# Altium footprint library Connector_Samtec_FSI.PcbLib: 90 footprints (part 2 of 6)
Each footprint in its own frame and in the unit in brackets; x right, y up, seen from the top. Pads: shape width x height; smd on the part's side, far side on the other; paste and mask are expansions set on the pad; w line width, h text height; cw(c..) or ccw(c..) is an arc to the next point about the centre after c.
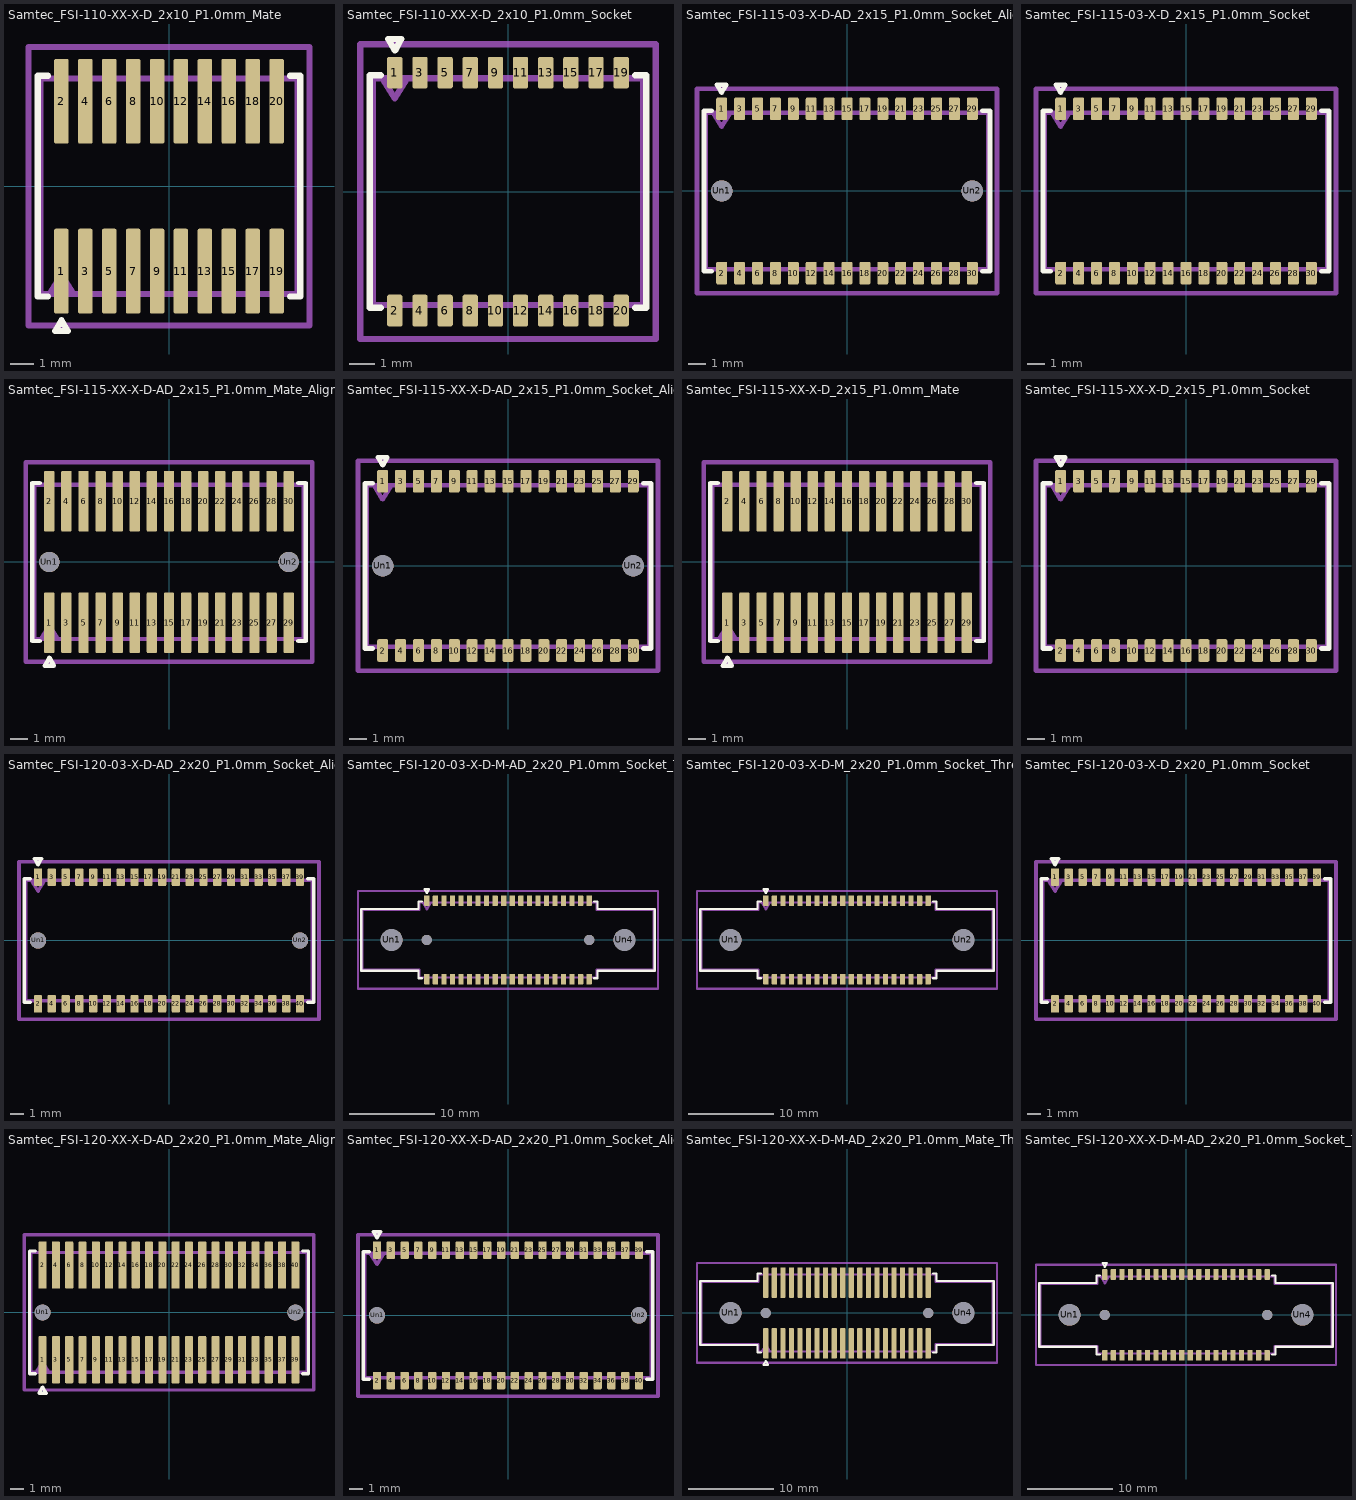
[diagram p1: the footprints below, top view; thin cyan lines are the x and y axes]

## Samtec_FSI-110-XX-X-D_2x10_P1.0mm_Mate [mm]
pads (20):
  rrect25% 0.61x3.55 smd: 1(-4.5,-3.555) 2(-4.5,3.555) 3(-3.5,-3.555) 4(-3.5,3.555) 5(-2.5,-3.555) 6(-2.5,3.555) 7(-1.5,-3.555) 8(-1.5,3.555) 9(-0.5,-3.555) 10(-0.5,3.555) 11(0.5,-3.555) 12(0.5,3.555) 13(1.5,-3.555) 14(1.5,3.555) 15(2.5,-3.555) 16(2.5,3.555) 17(3.5,-3.555) 18(3.5,3.555) 19(4.5,-3.555) 20(4.5,3.555)
F.SilkS:
  lines w0.254: -5.065,-4.618 -5.49,-4.618 -5.49,4.618 -5.065,4.618 ; 5.065,-4.618 5.49,-4.618 5.49,4.618 5.065,4.618 ; -4.764,-6.066 -4.236,-6.066 -4.5,-5.609 -4.764,-6.066
Top Assembly:
  lines w0.254: -5,-4.508 -4.5,-3.708 -4,-4.508 ; -5.38,-4.508 5.38,-4.508 5.38,4.508 -5.38,4.508 -5.38,-4.508
  text "'.Designator'" at -4.047,-0.84 h1
Top Courtyard:
  lines w0.254: -5.88,-5.83 5.88,-5.83 5.88,5.83 -5.88,5.83 -5.88,-5.83
Top Designator:
  text ".Designator" at -7.618,-0.626 h1.52

## Samtec_FSI-110-XX-X-D_2x10_P1.0mm_Socket [mm]
pads (20):
  rrect25% 0.61x1.26 smd: 1(-4.5,4.73) 2(-4.5,-4.73) 3(-3.5,4.73) 4(-3.5,-4.73) 5(-2.5,4.73) 6(-2.5,-4.73) 7(-1.5,4.73) 8(-1.5,-4.73) 9(-0.5,4.73) 10(-0.5,-4.73) 11(0.5,4.73) 12(0.5,-4.73) 13(1.5,4.73) 14(1.5,-4.73) 15(2.5,4.73) 16(2.5,-4.73) 17(3.5,4.73) 18(3.5,-4.73) 19(4.5,4.73) 20(4.5,-4.73)
F.SilkS:
  lines w0.254: -5.065,-4.618 -5.49,-4.618 -5.49,4.618 -5.065,4.618 ; -4.507,5.62 -4.764,6.066 -4.236,6.066 -4.493,5.62 ; 5.065,-4.618 5.49,-4.618 5.49,4.618 5.065,4.618
Top Assembly:
  lines w0.254: -5,4.508 -4.5,3.708 -4,4.508 ; -5.38,-4.508 5.38,-4.508 5.38,4.508 -5.38,4.508 -5.38,-4.508
  text "'.Designator'" at -4.047,-0.84 h1
Top Courtyard:
  lines w0.254: -5.88,-5.86 5.88,-5.86 5.88,5.86 -5.88,5.86 -5.88,-5.86
Top Designator:
  text ".Designator" at -7.618,-0.405 h1.52

## Samtec_FSI-115-03-X-D-AD_2x15_P1.0mm_Socket_AlignmentPin [mm]
pads (32):
  rrect25% 0.61x1.26 smd: 1(-7,4.59) 2(-7,-4.59) 3(-6,4.59) 4(-6,-4.59) 5(-5,4.59) 6(-5,-4.59) 7(-4,4.59) 8(-4,-4.59) 9(-3,4.59) 10(-3,-4.59) 11(-2,4.59) 12(-2,-4.59) 13(-1,4.59) 14(-1,-4.59) 15(0,4.59) 16(0,-4.59) 17(1,4.59) 18(1,-4.59) 19(2,4.59) 20(2,-4.59) 21(3,4.59) 22(3,-4.59) 23(4,4.59) 24(4,-4.59) 25(5,4.59) 26(5,-4.59) 27(6,4.59) 28(6,-4.59) 29(7,4.59) 30(7,-4.59)
  round 1.19 hole 1.19: Un1(-7,0) Un2(7,0)
F.SilkS:
  lines w0.254: -7.565,-4.49 -7.99,-4.49 -7.99,4.49 -7.565,4.49 ; 7.565,-4.49 7.99,-4.49 7.99,4.49 7.565,4.49 ; -7.264,5.937 -6.736,5.937 -7,5.48 -7.264,5.937
Top Assembly:
  lines w0.254: -7.5,4.38 -7,3.58 -6.5,4.38 ; -7.88,-4.38 7.88,-4.38 7.88,4.38 -7.88,4.38 -7.88,-4.38
  text "'.Designator'" at -4.047,-0.84 h1
Top Courtyard:
  lines w0.254: -8.38,-5.72 8.38,-5.72 8.38,5.72 -8.38,5.72 -8.38,-5.72
Top Designator:
  text ".Designator" at -7.618,-0.399 h1.52

## Samtec_FSI-115-03-X-D_2x15_P1.0mm_Socket [mm]
pads (30):
  rrect25% 0.61x1.26 smd: 1(-7,4.59) 2(-7,-4.59) 3(-6,4.59) 4(-6,-4.59) 5(-5,4.59) 6(-5,-4.59) 7(-4,4.59) 8(-4,-4.59) 9(-3,4.59) 10(-3,-4.59) 11(-2,4.59) 12(-2,-4.59) 13(-1,4.59) 14(-1,-4.59) 15(0,4.59) 16(0,-4.59) 17(1,4.59) 18(1,-4.59) 19(2,4.59) 20(2,-4.59) 21(3,4.59) 22(3,-4.59) 23(4,4.59) 24(4,-4.59) 25(5,4.59) 26(5,-4.59) 27(6,4.59) 28(6,-4.59) 29(7,4.59) 30(7,-4.59)
F.SilkS:
  lines w0.254: -7.565,-4.49 -7.99,-4.49 -7.99,4.49 -7.565,4.49 ; 7.565,-4.49 7.99,-4.49 7.99,4.49 7.565,4.49 ; -7.264,5.937 -6.736,5.937 -7,5.48 -7.264,5.937
Top Assembly:
  lines w0.254: -7.5,4.38 -7,3.58 -6.5,4.38 ; -7.88,-4.38 7.88,-4.38 7.88,4.38 -7.88,4.38 -7.88,-4.38
  text "'.Designator'" at -4.047,-0.84 h1
Top Courtyard:
  lines w0.254: -8.38,-5.72 8.38,-5.72 8.38,5.72 -8.38,5.72 -8.38,-5.72
Top Designator:
  text ".Designator" at -7.618,-0.399 h1.52

## Samtec_FSI-115-XX-X-D-AD_2x15_P1.0mm_Mate_AlignmentPin [mm]
pads (32):
  rrect25% 0.61x3.55 smd: 1(-7,-3.555) 2(-7,3.555) 3(-6,-3.555) 4(-6,3.555) 5(-5,-3.555) 6(-5,3.555) 7(-4,-3.555) 8(-4,3.555) 9(-3,-3.555) 10(-3,3.555) 11(-2,-3.555) 12(-2,3.555) 13(-1,-3.555) 14(-1,3.555) 15(0,-3.555) 16(0,3.555) 17(1,-3.555) 18(1,3.555) 19(2,-3.555) 20(2,3.555) 21(3,-3.555) 22(3,3.555) 23(4,-3.555) 24(4,3.555) 25(5,-3.555) 26(5,3.555) 27(6,-3.555) 28(6,3.555) 29(7,-3.555) 30(7,3.555)
  round 1.19 hole 1.19: Un1(-7,0) Un2(7,0)
F.SilkS:
  lines w0.254: -7.565,-4.618 -7.99,-4.618 -7.99,4.618 -7.565,4.618 ; 7.565,-4.618 7.99,-4.618 7.99,4.618 7.565,4.618 ; -7.264,-6.066 -6.736,-6.066 -7,-5.609 -7.264,-6.066
Top Assembly:
  lines w0.254: -7.5,-4.508 -7,-3.708 -6.5,-4.508 ; -7.88,-4.508 7.88,-4.508 7.88,4.508 -7.88,4.508 -7.88,-4.508
  text "'.Designator'" at -4.047,-0.84 h1
Top Courtyard:
  lines w0.254: -8.38,-5.83 8.38,-5.83 8.38,5.83 -8.38,5.83 -8.38,-5.83
Top Designator:
  text ".Designator" at -7.618,-0.626 h1.52

## Samtec_FSI-115-XX-X-D-AD_2x15_P1.0mm_Socket_AlignmentPin [mm]
pads (32):
  rrect25% 0.61x1.26 smd: 1(-7,4.73) 2(-7,-4.73) 3(-6,4.73) 4(-6,-4.73) 5(-5,4.73) 6(-5,-4.73) 7(-4,4.73) 8(-4,-4.73) 9(-3,4.73) 10(-3,-4.73) 11(-2,4.73) 12(-2,-4.73) 13(-1,4.73) 14(-1,-4.73) 15(0,4.73) 16(0,-4.73) 17(1,4.73) 18(1,-4.73) 19(2,4.73) 20(2,-4.73) 21(3,4.73) 22(3,-4.73) 23(4,4.73) 24(4,-4.73) 25(5,4.73) 26(5,-4.73) 27(6,4.73) 28(6,-4.73) 29(7,4.73) 30(7,-4.73)
  round 1.19 hole 1.19: Un1(-7,0) Un2(7,0)
F.SilkS:
  lines w0.254: -7.565,-4.618 -7.99,-4.618 -7.99,4.618 -7.565,4.618 ; -7.007,5.62 -7.264,6.066 -6.736,6.066 -6.993,5.62 ; 7.565,-4.618 7.99,-4.618 7.99,4.618 7.565,4.618
Top Assembly:
  lines w0.254: -7.5,4.508 -7,3.708 -6.5,4.508 ; -7.88,-4.508 7.88,-4.508 7.88,4.508 -7.88,4.508 -7.88,-4.508
  text "'.Designator'" at -4.047,-0.84 h1
Top Courtyard:
  lines w0.254: -8.38,-5.86 8.38,-5.86 8.38,5.86 -8.38,5.86 -8.38,-5.86
Top Designator:
  text ".Designator" at -7.618,-0.405 h1.52

## Samtec_FSI-115-XX-X-D_2x15_P1.0mm_Mate [mm]
pads (30):
  rrect25% 0.61x3.55 smd: 1(-7,-3.555) 2(-7,3.555) 3(-6,-3.555) 4(-6,3.555) 5(-5,-3.555) 6(-5,3.555) 7(-4,-3.555) 8(-4,3.555) 9(-3,-3.555) 10(-3,3.555) 11(-2,-3.555) 12(-2,3.555) 13(-1,-3.555) 14(-1,3.555) 15(0,-3.555) 16(0,3.555) 17(1,-3.555) 18(1,3.555) 19(2,-3.555) 20(2,3.555) 21(3,-3.555) 22(3,3.555) 23(4,-3.555) 24(4,3.555) 25(5,-3.555) 26(5,3.555) 27(6,-3.555) 28(6,3.555) 29(7,-3.555) 30(7,3.555)
F.SilkS:
  lines w0.254: -7.565,-4.618 -7.99,-4.618 -7.99,4.618 -7.565,4.618 ; 7.565,-4.618 7.99,-4.618 7.99,4.618 7.565,4.618 ; -7.264,-6.066 -6.736,-6.066 -7,-5.609 -7.264,-6.066
Top Assembly:
  lines w0.254: -7.5,-4.508 -7,-3.708 -6.5,-4.508 ; -7.88,-4.508 7.88,-4.508 7.88,4.508 -7.88,4.508 -7.88,-4.508
  text "'.Designator'" at -4.047,-0.84 h1
Top Courtyard:
  lines w0.254: -8.38,-5.83 8.38,-5.83 8.38,5.83 -8.38,5.83 -8.38,-5.83
Top Designator:
  text ".Designator" at -7.618,-0.626 h1.52

## Samtec_FSI-115-XX-X-D_2x15_P1.0mm_Socket [mm]
pads (30):
  rrect25% 0.61x1.26 smd: 1(-7,4.73) 2(-7,-4.73) 3(-6,4.73) 4(-6,-4.73) 5(-5,4.73) 6(-5,-4.73) 7(-4,4.73) 8(-4,-4.73) 9(-3,4.73) 10(-3,-4.73) 11(-2,4.73) 12(-2,-4.73) 13(-1,4.73) 14(-1,-4.73) 15(0,4.73) 16(0,-4.73) 17(1,4.73) 18(1,-4.73) 19(2,4.73) 20(2,-4.73) 21(3,4.73) 22(3,-4.73) 23(4,4.73) 24(4,-4.73) 25(5,4.73) 26(5,-4.73) 27(6,4.73) 28(6,-4.73) 29(7,4.73) 30(7,-4.73)
F.SilkS:
  lines w0.254: -7.565,-4.618 -7.99,-4.618 -7.99,4.618 -7.565,4.618 ; -7.007,5.62 -7.264,6.066 -6.736,6.066 -6.993,5.62 ; 7.565,-4.618 7.99,-4.618 7.99,4.618 7.565,4.618
Top Assembly:
  lines w0.254: -7.5,4.508 -7,3.708 -6.5,4.508 ; -7.88,-4.508 7.88,-4.508 7.88,4.508 -7.88,4.508 -7.88,-4.508
  text "'.Designator'" at -4.047,-0.84 h1
Top Courtyard:
  lines w0.254: -8.38,-5.86 8.38,-5.86 8.38,5.86 -8.38,5.86 -8.38,-5.86
Top Designator:
  text ".Designator" at -7.618,-0.405 h1.52

## Samtec_FSI-120-03-X-D-AD_2x20_P1.0mm_Socket_AlignmentPin [mm]
pads (42):
  rrect25% 0.61x1.26 smd: 1(-9.5,4.59) 2(-9.5,-4.59) 3(-8.5,4.59) 4(-8.5,-4.59) 5(-7.5,4.59) 6(-7.5,-4.59) 7(-6.5,4.59) 8(-6.5,-4.59) 9(-5.5,4.59) 10(-5.5,-4.59) 11(-4.5,4.59) 12(-4.5,-4.59) 13(-3.5,4.59) 14(-3.5,-4.59) 15(-2.5,4.59) 16(-2.5,-4.59) 17(-1.5,4.59) 18(-1.5,-4.59) 19(-0.5,4.59) 20(-0.5,-4.59) 21(0.5,4.59) 22(0.5,-4.59) 23(1.5,4.59) 24(1.5,-4.59) 25(2.5,4.59) 26(2.5,-4.59) 27(3.5,4.59) 28(3.5,-4.59) 29(4.5,4.59) 30(4.5,-4.59) 31(5.5,4.59) 32(5.5,-4.59) 33(6.5,4.59) 34(6.5,-4.59) 35(7.5,4.59) 36(7.5,-4.59) 37(8.5,4.59) 38(8.5,-4.59) 39(9.5,4.59) 40(9.5,-4.59)
  round 1.19 hole 1.19: Un1(-9.5,0) Un2(9.5,0)
F.SilkS:
  lines w0.254: -10.065,-4.49 -10.49,-4.49 -10.49,4.49 -10.065,4.49 ; 10.065,-4.49 10.49,-4.49 10.49,4.49 10.065,4.49 ; -9.764,5.937 -9.236,5.937 -9.5,5.48 -9.764,5.937
Top Assembly:
  lines w0.254: -10,4.38 -9.5,3.58 -9,4.38 ; -10.38,-4.38 10.38,-4.38 10.38,4.38 -10.38,4.38 -10.38,-4.38
  text "'.Designator'" at -4.047,-0.84 h1
Top Courtyard:
  lines w0.254: -10.88,-5.72 10.88,-5.72 10.88,5.72 -10.88,5.72 -10.88,-5.72
Top Designator:
  text ".Designator" at -7.618,-0.399 h1.52

## Samtec_FSI-120-03-X-D-M-AD_2x20_P1.0mm_Socket_Threaded_AlignmentPin [mm]
pads (44):
  rrect25% 0.61x1.26 smd: 1(-9.5,4.59) 2(-9.5,-4.59) 3(-8.5,4.59) 4(-8.5,-4.59) 5(-7.5,4.59) 6(-7.5,-4.59) 7(-6.5,4.59) 8(-6.5,-4.59) 9(-5.5,4.59) 10(-5.5,-4.59) 11(-4.5,4.59) 12(-4.5,-4.59) 13(-3.5,4.59) 14(-3.5,-4.59) 15(-2.5,4.59) 16(-2.5,-4.59) 17(-1.5,4.59) 18(-1.5,-4.59) 19(-0.5,4.59) 20(-0.5,-4.59) 21(0.5,4.59) 22(0.5,-4.59) 23(1.5,4.59) 24(1.5,-4.59) 25(2.5,4.59) 26(2.5,-4.59) 27(3.5,4.59) 28(3.5,-4.59) 29(4.5,4.59) 30(4.5,-4.59) 31(5.5,4.59) 32(5.5,-4.59) 33(6.5,4.59) 34(6.5,-4.59) 35(7.5,4.59) 36(7.5,-4.59) 37(8.5,4.59) 38(8.5,-4.59) 39(9.5,4.59) 40(9.5,-4.59)
  round 2.54 hole 2.54: Un1(-13.62,0) Un4(13.62,0)
  round 1.19 hole 1.19: Un2(-9.5,0) Un3(9.5,0)
F.SilkS:
  lines w0.254: -10.065,-4.49 -10.49,-4.49 -10.49,-3.605 -17.16,-3.605 -17.16,3.605 -10.49,3.605 -10.49,4.49 -10.065,4.49 ; 10.065,-4.49 10.49,-4.49 10.49,-3.605 17.16,-3.605 17.16,3.605 10.49,3.605 10.49,4.49 10.065,4.49 ; -9.764,5.937 -9.236,5.937 -9.5,5.48 -9.764,5.937
Top Assembly:
  lines w0.254: -10,4.38 -9.5,3.58 -9,4.38 ; -17.05,-3.495 -10.38,-3.495 -10.38,-4.38 10.38,-4.38 10.38,-3.495 17.05,-3.495 17.05,3.495 10.38,3.495 10.38,4.38 -10.38,4.38 -10.38,3.495 -17.05,3.495 -17.05,-3.495
  text "'.Designator'" at -4.047,-0.84 h1
Top Courtyard:
  lines w0.254: -17.55,-5.72 17.55,-5.72 17.55,5.72 -17.55,5.72 -17.55,-5.72
Top Designator:
  text ".Designator" at -7.618,-0.399 h1.52

## Samtec_FSI-120-03-X-D-M_2x20_P1.0mm_Socket_Threaded [mm]
pads (42):
  rrect25% 0.61x1.26 smd: 1(-9.5,4.59) 2(-9.5,-4.59) 3(-8.5,4.59) 4(-8.5,-4.59) 5(-7.5,4.59) 6(-7.5,-4.59) 7(-6.5,4.59) 8(-6.5,-4.59) 9(-5.5,4.59) 10(-5.5,-4.59) 11(-4.5,4.59) 12(-4.5,-4.59) 13(-3.5,4.59) 14(-3.5,-4.59) 15(-2.5,4.59) 16(-2.5,-4.59) 17(-1.5,4.59) 18(-1.5,-4.59) 19(-0.5,4.59) 20(-0.5,-4.59) 21(0.5,4.59) 22(0.5,-4.59) 23(1.5,4.59) 24(1.5,-4.59) 25(2.5,4.59) 26(2.5,-4.59) 27(3.5,4.59) 28(3.5,-4.59) 29(4.5,4.59) 30(4.5,-4.59) 31(5.5,4.59) 32(5.5,-4.59) 33(6.5,4.59) 34(6.5,-4.59) 35(7.5,4.59) 36(7.5,-4.59) 37(8.5,4.59) 38(8.5,-4.59) 39(9.5,4.59) 40(9.5,-4.59)
  round 2.54 hole 2.54: Un1(-13.62,0) Un2(13.62,0)
F.SilkS:
  lines w0.254: -10.065,-4.49 -10.49,-4.49 -10.49,-3.605 -17.16,-3.605 -17.16,3.605 -10.49,3.605 -10.49,4.49 -10.065,4.49 ; 10.065,-4.49 10.49,-4.49 10.49,-3.605 17.16,-3.605 17.16,3.605 10.49,3.605 10.49,4.49 10.065,4.49 ; -9.764,5.937 -9.236,5.937 -9.5,5.48 -9.764,5.937
Top Assembly:
  lines w0.254: -10,4.38 -9.5,3.58 -9,4.38 ; -17.05,-3.495 -10.38,-3.495 -10.38,-4.38 10.38,-4.38 10.38,-3.495 17.05,-3.495 17.05,3.495 10.38,3.495 10.38,4.38 -10.38,4.38 -10.38,3.495 -17.05,3.495 -17.05,-3.495
  text "'.Designator'" at -4.047,-0.84 h1
Top Courtyard:
  lines w0.254: -17.55,-5.72 17.55,-5.72 17.55,5.72 -17.55,5.72 -17.55,-5.72
Top Designator:
  text ".Designator" at -7.618,-0.399 h1.52

## Samtec_FSI-120-03-X-D_2x20_P1.0mm_Socket [mm]
pads (40):
  rrect25% 0.61x1.26 smd: 1(-9.5,4.59) 2(-9.5,-4.59) 3(-8.5,4.59) 4(-8.5,-4.59) 5(-7.5,4.59) 6(-7.5,-4.59) 7(-6.5,4.59) 8(-6.5,-4.59) 9(-5.5,4.59) 10(-5.5,-4.59) 11(-4.5,4.59) 12(-4.5,-4.59) 13(-3.5,4.59) 14(-3.5,-4.59) 15(-2.5,4.59) 16(-2.5,-4.59) 17(-1.5,4.59) 18(-1.5,-4.59) 19(-0.5,4.59) 20(-0.5,-4.59) 21(0.5,4.59) 22(0.5,-4.59) 23(1.5,4.59) 24(1.5,-4.59) 25(2.5,4.59) 26(2.5,-4.59) 27(3.5,4.59) 28(3.5,-4.59) 29(4.5,4.59) 30(4.5,-4.59) 31(5.5,4.59) 32(5.5,-4.59) 33(6.5,4.59) 34(6.5,-4.59) 35(7.5,4.59) 36(7.5,-4.59) 37(8.5,4.59) 38(8.5,-4.59) 39(9.5,4.59) 40(9.5,-4.59)
F.SilkS:
  lines w0.254: -10.065,-4.49 -10.49,-4.49 -10.49,4.49 -10.065,4.49 ; 10.065,-4.49 10.49,-4.49 10.49,4.49 10.065,4.49 ; -9.764,5.937 -9.236,5.937 -9.5,5.48 -9.764,5.937
Top Assembly:
  lines w0.254: -10,4.38 -9.5,3.58 -9,4.38 ; -10.38,-4.38 10.38,-4.38 10.38,4.38 -10.38,4.38 -10.38,-4.38
  text "'.Designator'" at -4.047,-0.84 h1
Top Courtyard:
  lines w0.254: -10.88,-5.72 10.88,-5.72 10.88,5.72 -10.88,5.72 -10.88,-5.72
Top Designator:
  text ".Designator" at -7.618,-0.399 h1.52

## Samtec_FSI-120-XX-X-D-AD_2x20_P1.0mm_Mate_AlignmentPin [mm]
pads (42):
  rrect25% 0.61x3.55 smd: 1(-9.5,-3.555) 2(-9.5,3.555) 3(-8.5,-3.555) 4(-8.5,3.555) 5(-7.5,-3.555) 6(-7.5,3.555) 7(-6.5,-3.555) 8(-6.5,3.555) 9(-5.5,-3.555) 10(-5.5,3.555) 11(-4.5,-3.555) 12(-4.5,3.555) 13(-3.5,-3.555) 14(-3.5,3.555) 15(-2.5,-3.555) 16(-2.5,3.555) 17(-1.5,-3.555) 18(-1.5,3.555) 19(-0.5,-3.555) 20(-0.5,3.555) 21(0.5,-3.555) 22(0.5,3.555) 23(1.5,-3.555) 24(1.5,3.555) 25(2.5,-3.555) 26(2.5,3.555) 27(3.5,-3.555) 28(3.5,3.555) 29(4.5,-3.555) 30(4.5,3.555) 31(5.5,-3.555) 32(5.5,3.555) 33(6.5,-3.555) 34(6.5,3.555) 35(7.5,-3.555) 36(7.5,3.555) 37(8.5,-3.555) 38(8.5,3.555) 39(9.5,-3.555) 40(9.5,3.555)
  round 1.19 hole 1.19: Un1(-9.5,0) Un2(9.5,0)
F.SilkS:
  lines w0.254: -10.065,-4.618 -10.49,-4.618 -10.49,4.618 -10.065,4.618 ; 10.065,-4.618 10.49,-4.618 10.49,4.618 10.065,4.618 ; -9.764,-6.066 -9.236,-6.066 -9.5,-5.609 -9.764,-6.066
Top Assembly:
  lines w0.254: -10,-4.508 -9.5,-3.708 -9,-4.508 ; -10.38,-4.508 10.38,-4.508 10.38,4.508 -10.38,4.508 -10.38,-4.508
  text "'.Designator'" at -4.047,-0.84 h1
Top Courtyard:
  lines w0.254: -10.88,-5.83 10.88,-5.83 10.88,5.83 -10.88,5.83 -10.88,-5.83
Top Designator:
  text ".Designator" at -7.618,-0.626 h1.52

## Samtec_FSI-120-XX-X-D-AD_2x20_P1.0mm_Socket_AlignmentPin [mm]
pads (42):
  rrect25% 0.61x1.26 smd: 1(-9.5,4.73) 2(-9.5,-4.73) 3(-8.5,4.73) 4(-8.5,-4.73) 5(-7.5,4.73) 6(-7.5,-4.73) 7(-6.5,4.73) 8(-6.5,-4.73) 9(-5.5,4.73) 10(-5.5,-4.73) 11(-4.5,4.73) 12(-4.5,-4.73) 13(-3.5,4.73) 14(-3.5,-4.73) 15(-2.5,4.73) 16(-2.5,-4.73) 17(-1.5,4.73) 18(-1.5,-4.73) 19(-0.5,4.73) 20(-0.5,-4.73) 21(0.5,4.73) 22(0.5,-4.73) 23(1.5,4.73) 24(1.5,-4.73) 25(2.5,4.73) 26(2.5,-4.73) 27(3.5,4.73) 28(3.5,-4.73) 29(4.5,4.73) 30(4.5,-4.73) 31(5.5,4.73) 32(5.5,-4.73) 33(6.5,4.73) 34(6.5,-4.73) 35(7.5,4.73) 36(7.5,-4.73) 37(8.5,4.73) 38(8.5,-4.73) 39(9.5,4.73) 40(9.5,-4.73)
  round 1.19 hole 1.19: Un1(-9.5,0) Un2(9.5,0)
F.SilkS:
  lines w0.254: -10.065,-4.618 -10.49,-4.618 -10.49,4.618 -10.065,4.618 ; -9.507,5.62 -9.764,6.066 -9.236,6.066 -9.493,5.62 ; 10.065,-4.618 10.49,-4.618 10.49,4.618 10.065,4.618
Top Assembly:
  lines w0.254: -10,4.508 -9.5,3.708 -9,4.508 ; -10.38,-4.508 10.38,-4.508 10.38,4.508 -10.38,4.508 -10.38,-4.508
  text "'.Designator'" at -4.047,-0.84 h1
Top Courtyard:
  lines w0.254: -10.88,-5.86 10.88,-5.86 10.88,5.86 -10.88,5.86 -10.88,-5.86
Top Designator:
  text ".Designator" at -7.618,-0.405 h1.52

## Samtec_FSI-120-XX-X-D-M-AD_2x20_P1.0mm_Mate_Threaded_AlignmentPin [mm]
pads (44):
  rrect25% 0.61x3.55 smd: 1(-9.5,-3.555) 2(-9.5,3.555) 3(-8.5,-3.555) 4(-8.5,3.555) 5(-7.5,-3.555) 6(-7.5,3.555) 7(-6.5,-3.555) 8(-6.5,3.555) 9(-5.5,-3.555) 10(-5.5,3.555) 11(-4.5,-3.555) 12(-4.5,3.555) 13(-3.5,-3.555) 14(-3.5,3.555) 15(-2.5,-3.555) 16(-2.5,3.555) 17(-1.5,-3.555) 18(-1.5,3.555) 19(-0.5,-3.555) 20(-0.5,3.555) 21(0.5,-3.555) 22(0.5,3.555) 23(1.5,-3.555) 24(1.5,3.555) 25(2.5,-3.555) 26(2.5,3.555) 27(3.5,-3.555) 28(3.5,3.555) 29(4.5,-3.555) 30(4.5,3.555) 31(5.5,-3.555) 32(5.5,3.555) 33(6.5,-3.555) 34(6.5,3.555) 35(7.5,-3.555) 36(7.5,3.555) 37(8.5,-3.555) 38(8.5,3.555) 39(9.5,-3.555) 40(9.5,3.555)
  round 2.54 hole 2.54: Un1(-13.62,0) Un4(13.62,0)
  round 1.19 hole 1.19: Un2(-9.5,0) Un3(9.5,0)
F.SilkS:
  lines w0.254: -10.065,-4.618 -10.49,-4.618 -10.49,-3.734 -17.16,-3.734 -17.16,3.734 -10.49,3.734 -10.49,4.618 -10.065,4.618 ; 10.065,-4.618 10.49,-4.618 10.49,-3.734 17.16,-3.734 17.16,3.734 10.49,3.734 10.49,4.618 10.065,4.618 ; -9.764,-6.066 -9.236,-6.066 -9.5,-5.609 -9.764,-6.066
Top Assembly:
  lines w0.254: -10,-4.508 -9.5,-3.708 -9,-4.508 ; -17.05,-3.624 -10.38,-3.624 -10.38,-4.508 10.38,-4.508 10.38,-3.624 17.05,-3.624 17.05,3.624 10.38,3.624 10.38,4.508 -10.38,4.508 -10.38,3.624 -17.05,3.624 -17.05,-3.624
  text "'.Designator'" at -4.047,-0.84 h1
Top Courtyard:
  lines w0.254: -17.55,-5.83 17.55,-5.83 17.55,5.83 -17.55,5.83 -17.55,-5.83
Top Designator:
  text ".Designator" at -7.618,-0.626 h1.52

## Samtec_FSI-120-XX-X-D-M-AD_2x20_P1.0mm_Socket_Threaded_AlignmentPin [mm]
pads (44):
  rrect25% 0.61x1.26 smd: 1(-9.5,4.73) 2(-9.5,-4.73) 3(-8.5,4.73) 4(-8.5,-4.73) 5(-7.5,4.73) 6(-7.5,-4.73) 7(-6.5,4.73) 8(-6.5,-4.73) 9(-5.5,4.73) 10(-5.5,-4.73) 11(-4.5,4.73) 12(-4.5,-4.73) 13(-3.5,4.73) 14(-3.5,-4.73) 15(-2.5,4.73) 16(-2.5,-4.73) 17(-1.5,4.73) 18(-1.5,-4.73) 19(-0.5,4.73) 20(-0.5,-4.73) 21(0.5,4.73) 22(0.5,-4.73) 23(1.5,4.73) 24(1.5,-4.73) 25(2.5,4.73) 26(2.5,-4.73) 27(3.5,4.73) 28(3.5,-4.73) 29(4.5,4.73) 30(4.5,-4.73) 31(5.5,4.73) 32(5.5,-4.73) 33(6.5,4.73) 34(6.5,-4.73) 35(7.5,4.73) 36(7.5,-4.73) 37(8.5,4.73) 38(8.5,-4.73) 39(9.5,4.73) 40(9.5,-4.73)
  round 2.54 hole 2.54: Un1(-13.62,0) Un4(13.62,0)
  round 1.19 hole 1.19: Un2(-9.5,0) Un3(9.5,0)
F.SilkS:
  lines w0.254: -10.065,-4.618 -10.49,-4.618 -10.49,-3.734 -17.16,-3.734 -17.16,3.734 -10.49,3.734 -10.49,4.618 -10.065,4.618 ; -9.507,5.62 -9.764,6.066 -9.236,6.066 -9.493,5.62 ; 10.065,-4.618 10.49,-4.618 10.49,-3.734 17.16,-3.734 17.16,3.734 10.49,3.734 10.49,4.618 10.065,4.618
Top Assembly:
  lines w0.254: -10,4.508 -9.5,3.708 -9,4.508 ; -17.05,-3.624 -10.38,-3.624 -10.38,-4.508 10.38,-4.508 10.38,-3.624 17.05,-3.624 17.05,3.624 10.38,3.624 10.38,4.508 -10.38,4.508 -10.38,3.624 -17.05,3.624 -17.05,-3.624
  text "'.Designator'" at -4.047,-0.84 h1
Top Courtyard:
  lines w0.254: -17.55,-5.86 17.55,-5.86 17.55,5.86 -17.55,5.86 -17.55,-5.86
Top Designator:
  text ".Designator" at -7.618,-0.405 h1.52